# EAGLE library part MAX1921EUT18+ (library MAX1921EUT18+)
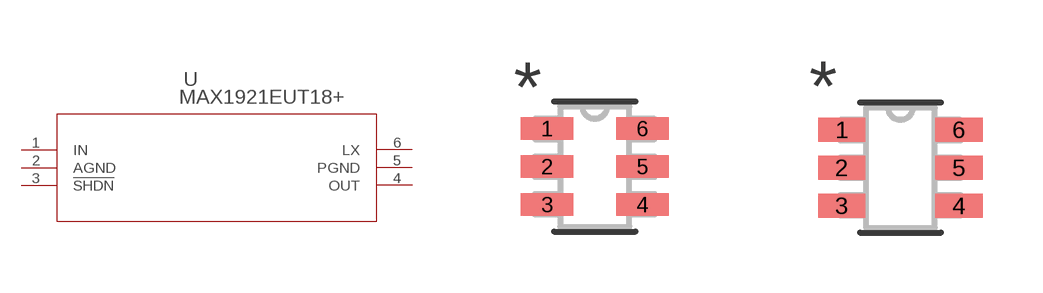
[diagram p0: symbol with the pads of 21-0058I; footprints 21-0058I, 21-0058I-M]

Designator prefix U

## MAX1921EUT18+ (BUILT_BY: EMA_UL_Team; MANUFACTURER_PART_NUMBER: MAX1921EUT18+; VENDOR: Maxim Integrated Products)  [21-0058I]
1  IN  in
2  AGND  pwr
3  !SHDN  pas
4  OUT  out
5  PGND  pwr
6  LX  pas

## MAX1921EUT18+21-0058I-M (BUILT_BY: EMA_UL_Team; MANUFACTURER_PART_NUMBER: MAX1921EUT18+; VENDOR: Maxim Integrated Products)  [21-0058I-M]
Pads as for 21-0058I

## MAX1921EUT18+21-0058I-L (BUILT_BY: EMA_UL_Team; MANUFACTURER_PART_NUMBER: MAX1921EUT18+; VENDOR: Maxim Integrated Products)  [21-0058I-L]
Pads as for 21-0058I

## Footprint 21-0058I (pad centres in mm)
smd 1.321 x 0.559: 1 -1.194,0.95; 2 -1.194,0; 3 -1.194,-0.95; 4 1.194,-0.95; 5 1.194,0; 6 1.194,0.95

## Footprint 21-0058I-M (pad centres in mm)
smd 1.181 x 0.61: 1 -1.467,0.95; 2 -1.467,0; 3 -1.467,-0.95; 4 1.467,-0.95; 5 1.467,0; 6 1.467,0.95

## Footprint 21-0058I-L (pad centres in mm)
smd 0.775 x 0.508: 1 -1.264,0.95; 2 -1.264,0; 3 -1.264,-0.95; 4 1.264,-0.95; 5 1.264,0; 6 1.264,0.95